# EAGLE library part MPX5700 (library digikey)
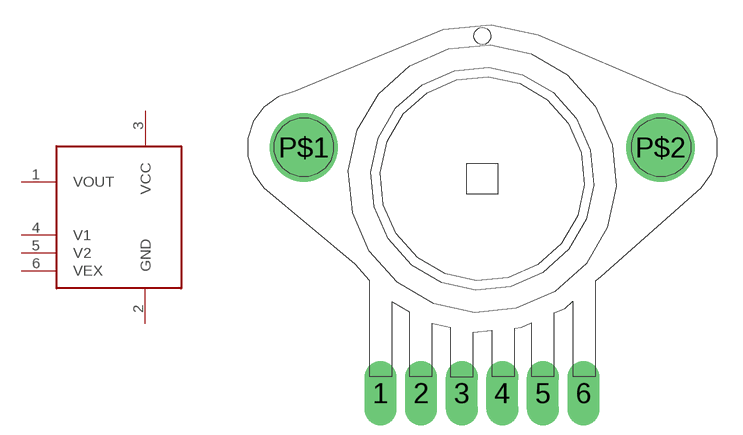
[diagram p6: symbol with the pads of MPX5700ASX; footprint MPX5700ASX]

Designator prefix -

## MPX5700  [MPX5700ASX]
1  VOUT
2  GND
3  VCC
4  V1
5  V2
6  VEX

## Footprint MPX5700ASX (pad centres in mm)
drill 1.27 long: 1 -5.969,-12.7; 2 -3.556,-12.7; 3 -1.143,-12.7; 4 1.27,-12.7; 5 3.683,-12.7; 6 6.096,-12.7
drill 3.048: P$1 -10.541,1.905; P$2 10.668,1.905